# Altium footprint library Capacitors.PcbLib: 5 footprints
Each footprint in its own frame and in the unit in brackets; x right, y up, seen from the top. Pads: shape width x height; smd on the part's side, far side on the other; paste and mask are expansions set on the pad; w line width, h text height; cw(c..) or ccw(c..) is an arc to the next point about the centre after c.
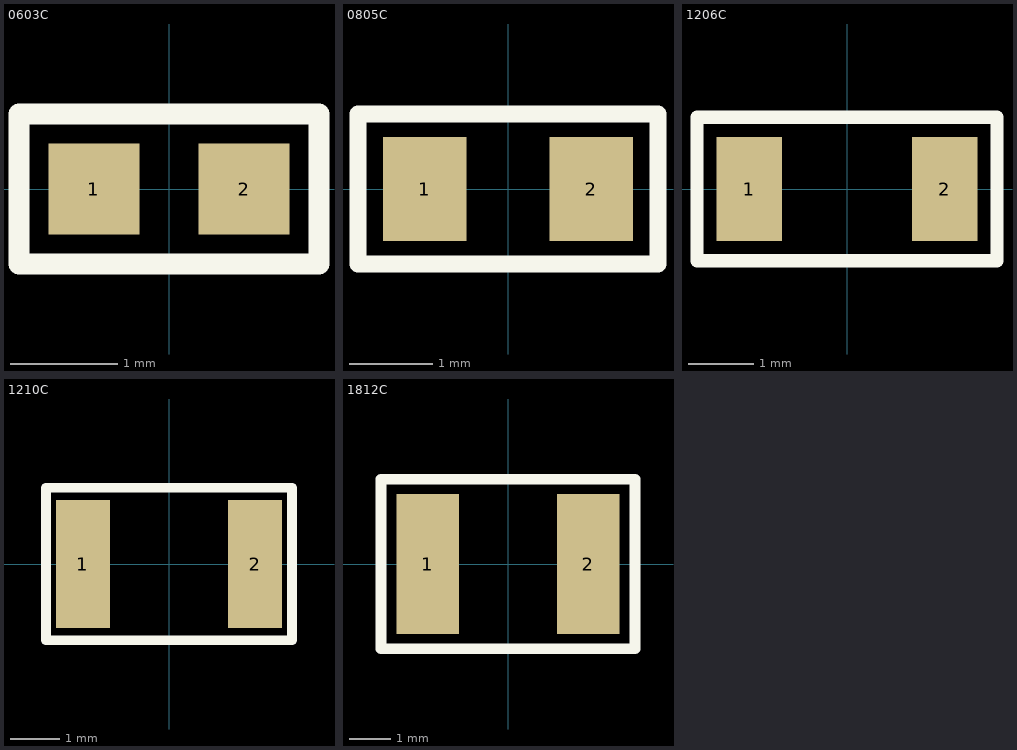
[diagram p0: the footprints below, top view; thin cyan lines are the x and y axes]

## 0603C [mm]
height 0.45
pads (2):
  rect 0.85x0.85 smd: 1(-0.7,0) 2(0.7,0)
Top Overlay:
  lines w0.2: -1.4,-0.7 1.4,-0.7 1.4,0.7 -1.4,0.7 -1.4,-0.7
3D body "0603.step": height 0.9, standoff 0, extent -0.85,-0.45 0.85,0.45

## 0805C [mm]
height 0.45
pads (2):
  rect 1x1.25 smd: 1(-1,0) 2(1,0)
Top Overlay:
  lines w0.2: -1.8,-0.9 -1.8,0.9 1.8,0.9 1.8,-0.9 -1.8,-0.9
3D body "0805.step": height 1.35, standoff 0, extent -1.1,-0.725 1.1,0.725

## 1206C [mm]
height 0.6
pads (2):
  rect 1x1.6 smd: 1(-1.5,0) 2(1.5,0)
Top Overlay:
  lines w0.2: -2.3,-1.1 2.3,-1.1 2.3,1.1 -2.3,1.1 -2.3,-1.1
3D body "1206.step": height 1.8, standoff 0, extent -1.7,-0.9 1.7,0.9

## 1210C [mm]
height 2.5
pads (2):
  rect 1.1x2.6 smd: 1(-1.75,0) 2(1.75,0)
Top Overlay:
  lines w0.2: -2.5,-1.55 2.5,-1.55 2.5,1.55 -2.5,1.55 -2.5,-1.55
3D body "1210.step": height 2.2, standoff 0, extent -1.8,-1.4 1.8,1.4

## 1812C [mm]
height 1.4
pads (2):
  rect 1.5x3.35 smd: 1(-1.925,0) 2(1.925,0)
Top Overlay:
  lines w0.254: -3.048,-2.032 3.048,-2.032 3.048,2.032 -3.048,2.032 -3.048,-2.032
3D body "1812.step": height 2.8, standoff 0, extent -2.45,-1.8 2.45,1.8